# EAGLE library part PIC12C* (library microchip)
Microchip PIC12C508, 08A, 09, 09A, PIC12CE518 and 19 8-pin 8-bit CMOS Microcontroller Models differ only in amount of RAM and program memory E variants add 16 bytes of run-time programmable EEPROM
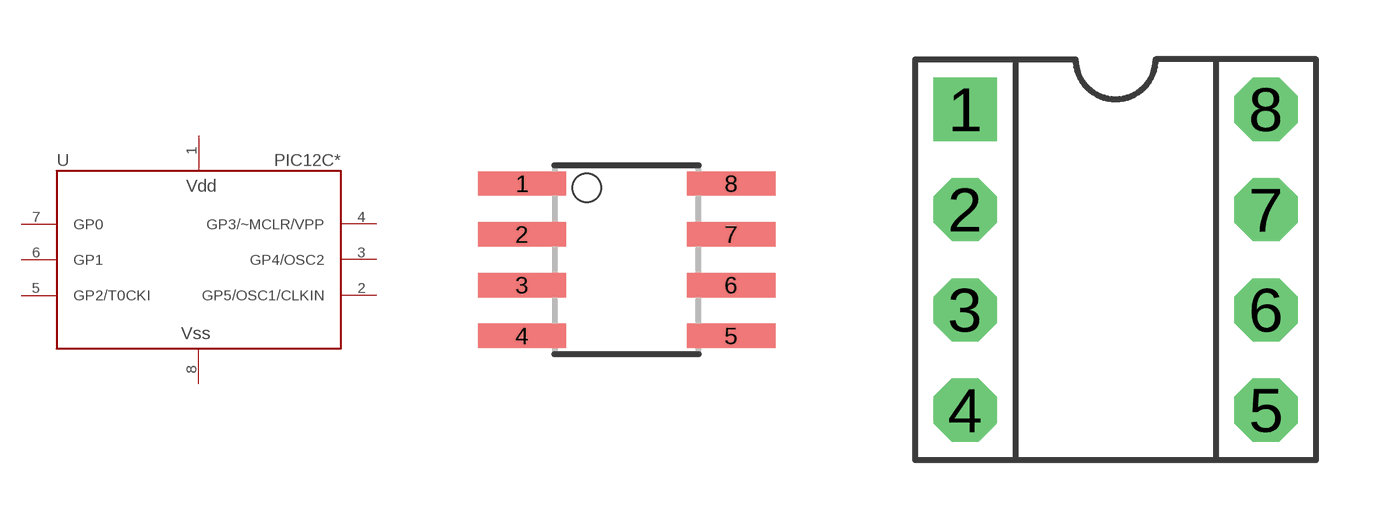
[diagram p2: symbol with the pads of SOIC-8; footprints SOIC-8, DIP-8]

Designator prefix U

## PIC12C508SN, PIC12C508ASN, PIC12C509SN, PIC12C509ASN, PIC12CE518SN, PIC12CE519SN  [SOIC-8]
1  VDD  pwr
2  GP5/OSC1/CLKIN
3  GP4/OSC2
4  GP3/~MCLR/VPP  in
5  GP2/T0CKI
6  GP1
7  GP0
8  VSS  pwr

## PIC12C508P, PIC12C508AP, PIC12C509P, PIC12C509AP, PIC12CE518P, PIC12CE519P  [DIP-8]
Pads as for SOIC-8

## Footprint SOIC-8 (pad centres in mm)
SOIC-8
smd 2.21 x 0.61: 1 -2.616,1.905; 2 -2.616,0.635; 3 -2.616,-0.635; 4 -2.616,-1.905; 5 2.616,-1.905; 6 2.616,-0.635; 7 2.616,0.635; 8 2.616,1.905

## Footprint DIP-8 (pad centres in mm)
DIP-8
drill 0.813 pad 1.6 square: 1 -3.81,3.81
drill 0.813 pad 1.6 octagon: 2 -3.81,1.27; 3 -3.81,-1.27; 4 -3.81,-3.81; 5 3.81,-3.81; 6 3.81,-1.27; 7 3.81,1.27; 8 3.81,3.81